# EAGLE library part SIM7600E-H (library SIM7600E-H)
Multi-Band LTE-TDD/LTE-FDD/HSPA+ and GSM/GPRS/EDGE module
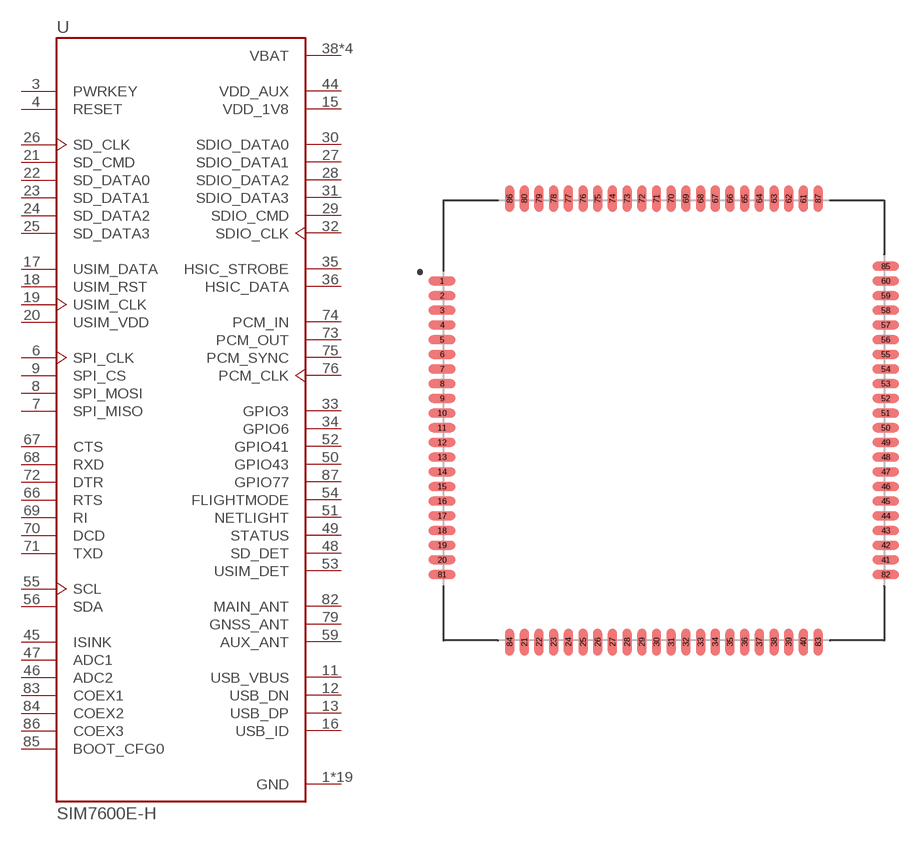
[diagram p0: symbol with the pads of IC_SIM7600E-H; footprint IC_SIM7600E-H]

Designator prefix U

## SIM7600E-H (Availability: Unavailable; Description: Multi-Band LTE-TDD/LTE-FDD/HSPA+ and GSM/GPRS/EDGE module; MF: Simcom; MP: SIM7600E-H; Package: None; Price: None)  [IC_SIM7600E-H]
1  GND  pwr
2  GND  pwr
3  PWRKEY  in
4  RESET  in
5  GND  pwr
6  SPI_CLK  out
7  SPI_MISO  in
8  SPI_MOSI  out
9  SPI_CS  out
10  GND  pwr
11  USB_VBUS  in
12  USB_DN
13  USB_DP
14  GND  pwr
15  VDD_1V8  out
16  USB_ID  in
17  USIM_DATA
18  USIM_RST  out
19  USIM_CLK  out
20  USIM_VDD  out
21  SD_CMD  out
22  SD_DATA0
23  SD_DATA1
24  SD_DATA2
25  SD_DATA3
26  SD_CLK  out
27  SDIO_DATA1
28  SDIO_DATA2
29  SDIO_CMD  out
30  SDIO_DATA0
31  SDIO_DATA3
32  SDIO_CLK  out
33  GPIO3
34  GPIO6
35  HSIC_STROBE  out
36  HSIC_DATA
37  GND  pwr
38  VBAT  pwr
39  VBAT  pwr
40  GND  pwr
41  GND  pwr
43  GND  pwr
44  VDD_AUX  out
45  ISINK  in
46  ADC2  in
47  ADC1  in
48  SD_DET
49  STATUS  out
50  GPIO43
51  NETLIGHT  out
52  GPIO41
53  USIM_DET
54  FLIGHTMODE  in
55  SCL  out
56  SDA
57  GND  pwr
58  GND  pwr
59  AUX_ANT  in
60  GND  pwr
61  GND  pwr
62  VBAT  pwr
63  VBAT  pwr
64  GND  pwr
65  GND  pwr
66  RTS  out
67  CTS  in
68  RXD  in
69  RI  out
70  DCD  out
71  TXD  out
72  DTR  in
73  PCM_OUT  out
74  PCM_IN  in
75  PCM_SYNC  out
76  PCM_CLK  out
77  GND  pwr
78  GND  pwr
79  GNSS_ANT
80  GND  pwr
81  GND  pwr
82  MAIN_ANT
83  COEX1
84  COEX2
85  BOOT_CFG0  in
86  COEX3
87  GPIO77

## Footprint IC_SIM7600E-H (pad centres in mm)
smd 1.8 x 0.6: 1 -15.1,9.5; 2 -15.1,8.5; 3 -15.1,7.5; 4 -15.1,6.5; 5 -15.1,5.5; 6 -15.1,4.5; 7 -15.1,3.5; 8 -15.1,2.5; 9 -15.1,1.5; 10 -15.1,0.5; 11 -15.1,-0.5; 12 -15.1,-1.5; 13 -15.1,-2.5; 14 -15.1,-3.5; 15 -15.1,-4.5; 16 -15.1,-5.5; 17 -15.1,-6.5; 18 -15.1,-7.5; 19 -15.1,-8.5; 20 -15.1,-9.5; 41 15.1,-9.5; 42 15.1,-8.5; 43 15.1,-7.5; 44 15.1,-6.5; 45 15.1,-5.5; 46 15.1,-4.5; 47 15.1,-3.5; 48 15.1,-2.5; 49 15.1,-1.5; 50 15.1,-0.5; 51 15.1,0.5; 52 15.1,1.5; 53 15.1,2.5; 54 15.1,3.5; 55 15.1,4.5; 56 15.1,5.5; 57 15.1,6.5; 58 15.1,7.5; 59 15.1,8.5; 60 15.1,9.5; 81 -15.1,-10.5; 82 15.1,-10.5; 85 15.1,10.5
smd 0.6 x 1.8: 21 -9.5,-15.1; 22 -8.5,-15.1; 23 -7.5,-15.1; 24 -6.5,-15.1; 25 -5.5,-15.1; 26 -4.5,-15.1; 27 -3.5,-15.1; 28 -2.5,-15.1; 29 -1.5,-15.1; 30 -0.5,-15.1; 31 0.5,-15.1; 32 1.5,-15.1; 33 2.5,-15.1; 34 3.5,-15.1; 35 4.5,-15.1; 36 5.5,-15.1; 37 6.5,-15.1; 38 7.5,-15.1; 39 8.5,-15.1; 40 9.5,-15.1; 61 9.5,15.1; 62 8.5,15.1; 63 7.5,15.1; 64 6.5,15.1; 65 5.5,15.1; 66 4.5,15.1; 67 3.5,15.1; 68 2.5,15.1; 69 1.5,15.1; 70 0.5,15.1; 71 -0.5,15.1; 72 -1.5,15.1; 73 -2.5,15.1; 74 -3.5,15.1; 75 -4.5,15.1; 76 -5.5,15.1; 77 -6.5,15.1; 78 -7.5,15.1; 79 -8.5,15.1; 80 -9.5,15.1; 83 10.5,-15.1; 84 -10.5,-15.1; 86 -10.5,15.1; 87 10.5,15.1